# EAGLE library part AVR-ISP-6 (library steves)
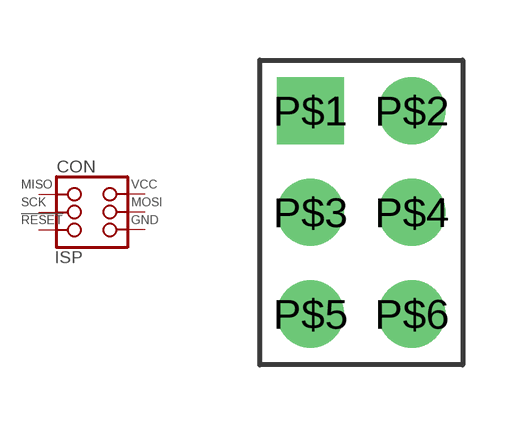
[diagram p43: symbol with the pads of AVR-ISP-6-0.1; footprint AVR-ISP-6-0.1]

Designator prefix CON

## AVR-ISP-60.1  [AVR-ISP-6-0.1]
P$1  P$MISO
P$2  P$VCC  pwr
P$3  P$SCK
P$4  P$MOSI
P$5  P$RESET
P$6  P$GND  pwr

## Footprint AVR-ISP-6-0.1 (pad centres in mm)
drill 0.9 pad 1.676 square: P$1 -1.27,2.54
drill 0.9 pad 1.676: P$2 1.27,2.54; P$3 -1.27,0; P$4 1.27,0; P$5 -1.27,-2.54; P$6 1.27,-2.54